# Altium footprint library electronic.PcbLib: 11 footprints
Each footprint in its own frame and in the unit in brackets; x right, y up, seen from the top. Pads: shape width x height; smd on the part's side, far side on the other; paste and mask are expansions set on the pad; w line width, h text height; cw(c..) or ccw(c..) is an arc to the next point about the centre after c.
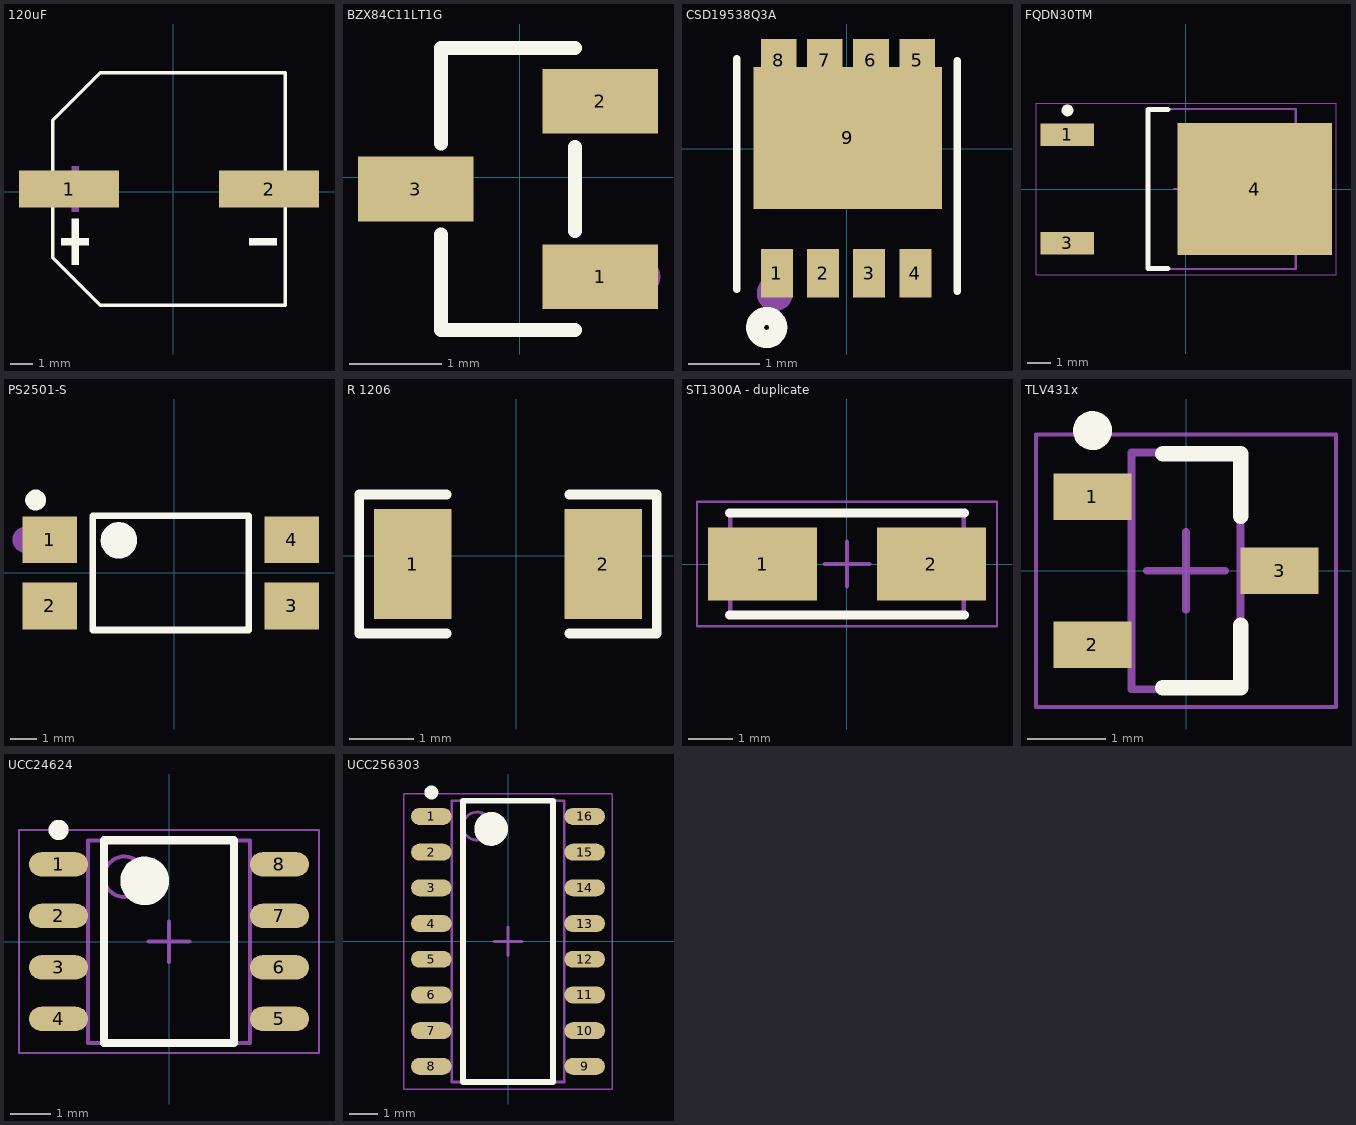
[diagram p0: the footprints below, top view; thin cyan lines are the x and y axes]

## 120uF [mm]
pads (2):
  rect 4.5x1.65 smd: 1(-4.682,0.127) 2(4.318,0.127)
Top Overlay:
  region: -4.56,-1.212 -4.56,-3.272 -4.25,-3.272 -4.25,-1.212
  region: -5.023,-2.087 -5.023,-2.396 -3.787,-2.396 -3.787,-2.087
  region: 4.659,-2.087 4.659,-2.396 3.423,-2.396 3.423,-2.087
  lines w0.152: -5.408,-0.725 -5.408,-2.963 -3.272,-5.099 5.044,-5.099 5.044,-0.725 ; -5.408,0.979 -5.408,3.217 -3.272,5.353 5.044,5.353 5.044,0.979
Mechanical 15:
  region: -4.56,1.157 -4.56,-0.903 -4.25,-0.903 -4.25,1.157
  region: -5.023,0.282 -5.023,-0.028 -3.787,-0.028 -3.787,0.282
  region: 4.659,0.282 4.659,-0.028 3.423,-0.028 3.423,0.282

## BZX84C11LT1G [mm]
pads (3):
  rect 1.25x0.7 smd: 1(0.873,-1.077) 2(0.873,0.823) 3(-1.127,-0.127)
Top Overlay:
  lines w0.152: -0.853,-0.622 -0.853,-1.653 0.599,-1.653 ; -0.853,0.368 -0.853,1.399 0.599,1.399 ; 0.599,-0.582 0.599,0.328
Mechanical 15:
  circle w0.2: c1.323,-1.077 r0.1

## CSD19538Q3A [mm]
pads (9):
  rect 0.45x0.68 smd: 1(-0.988,-1.752) 2(-0.337,-1.752) 3(0.313,-1.752) 4(0.963,-1.752)
  rect 0.5x0.6 smd: 5(0.988,1.245) 6(0.338,1.245) 7(-0.312,1.245) 8(-0.962,1.245)
  rect 2.65x2 smd: 9(0.013,0.153)
Top Overlay:
  circle w0.254: c-1.13,-2.514 r0.163
  lines w0.102: -1.55,-1.98 -1.55,1.27 ; 1.55,-2.006 1.55,1.244
Top Paste:
  region: 0.838,1.144 0.838,1.544 1.138,1.544 1.138,1.144
  region: 0.188,1.144 0.188,1.544 0.488,1.544 0.488,1.144
  region: -0.462,1.144 -0.462,1.544 -0.162,1.544 -0.162,1.144
  region: -1.112,1.144 -1.112,1.544 -0.812,1.544 -0.812,1.144
  region: -1.257,0.978 -1.257,-0.673 1.283,-0.673 1.283,0.978
  region: 1.112,-1.503 1.112,-1.903 0.812,-1.903 0.812,-1.503
  region: 0.463,-1.503 0.463,-1.903 0.163,-1.903 0.163,-1.503
  region: -0.188,-1.503 -0.188,-1.903 -0.488,-1.903 -0.488,-1.503
  region: -0.838,-1.503 -0.838,-1.903 -1.138,-1.903 -1.138,-1.503
Mechanical 15:
  circle w0.254: c-1.016,-2.032 r0.127

## FQDN30TM [mm] "D-PAK, 3-Pads, Body 6.21x6.73mm (max), IPC Medium Density"
height 2.39
pads (3):
  rect 2.25x0.95 smd: 1(-5,2.29) 3(-5,-2.29)
  rect 6.5x5.55 smd: 4(2.9,0)
Top Overlay:
  circle w0.25: c-5,3.315 r0.125
  lines w0.2: -0.75,-3.35 -1.6,-3.35 -1.6,3.35 -0.75,3.35
Mechanical 13:
  lines w0.1: -1.6,-3.375 4.62,-3.375 4.62,3.375 -1.6,3.375 -1.6,-3.375
Mechanical 15:
  lines w0.05: -6.325,-3.625 6.325,-3.625 6.325,3.625 -6.325,3.625 -6.325,-3.625
  lines w0.1: -0.5,0 0.5,0 ; 0,-0.5 0,0.5
3D body: height 2.39, standoff 0.13, extent -1.6,-3.375 4.62,3.375

## PS2501-S [mm]
pads (4):
  rect 2.1x1.8 smd: 1(-4.777,1.27) 2(-4.777,-1.27) 3(4.523,-1.27) 4(4.523,1.27)
Top Overlay:
  lines w0.254: -3.127,-2.2 -3.127,2.2 2.873,2.2 2.873,-2.2 -3.127,-2.2
  lines w0.4: -5.326,3 ccw(c-5.325,2.8) -5.324,3
  lines w0.7: -2.126,1.6 ccw(c-2.123,1.25) -2.121,1.6
Mechanical 15:
  circle w0.5: c-5.715,1.27 r0.25

## R 1206 [mil]
pads (2):
  rect 47.54x66.97 smd: 1(-63.22,-5) 2(53.22,-5)
Top Overlay:
  lines w6: -42.45,-47.48 -95.99,-47.48 -95.99,37.48 -42.45,37.48 ; 32.45,-47.48 85.99,-47.48 85.99,37.48 32.45,37.48
Top Paste:
  region: -39.45,-34.55 -39.45,-20.32 -43.39,-16.39 -51.68,-16.39 -55.61,-12.45 -55.61,2.45 -51.68,6.38 -43.39,6.38 -39.45,10.32 -39.45,24.55 -43.39,28.48 -83.05,28.48 -86.99,24.55 -86.99,-34.55 -83.05,-38.48 -43.39,-38.48
  region: 29.45,-34.55 29.45,-20.32 33.39,-16.39 41.68,-16.39 45.61,-12.45 45.61,2.45 41.68,6.38 33.39,6.38 29.45,10.32 29.45,24.55 33.39,28.48 73.05,28.48 76.99,24.55 76.99,-34.55 73.05,-38.48 33.39,-38.48

## ST1300A [mm]

## ST1300A - duplicate [mm] "Molded Capacitor, 2-Leads, Body 5.00x2.15mm, IPC Medium Density"
height 2.3
pads (2):
  rect 2.45x1.65 smd: 1(-1.9,0) 2(1.9,0)
Top Overlay:
  lines w0.2: -2.65,-1.15 2.65,-1.15 ; -2.65,1.15 2.65,1.15
Mechanical 13:
  lines w0.1: -2.625,-1.15 2.625,-1.15 2.625,1.15 -2.625,1.15 -2.625,-1.15
Mechanical 15:
  lines w0.05: -3.375,-1.4 3.375,-1.4 3.375,1.4 -3.375,1.4 -3.375,-1.4
  lines w0.1: -0.5,0 0.5,0 ; 0,-0.5 0,0.5
3D body: height 2.3, standoff 0, extent -2.625,-1.15 2.625,1.15

## TLV431x [mm] "SOT23, 3-Leads, Body 2.92x2.37mm, Pitch 0.95mm, IPC Medium Density"
height 1.12
pads (3):
  rect 1x0.6 smd: 1(-1.2,0.95) 2(-1.2,-0.95) 3(1.2,0)
Top Overlay:
  circle w0.25: c-1.2,1.8 r0.125
  lines w0.2: -0.3,-1.5 0.7,-1.5 0.7,-0.7 ; -0.3,1.5 0.7,1.5 0.7,0.7
Mechanical 13:
  lines w0.1: -0.7,-1.52 0.7,-1.52 0.7,1.52 -0.7,1.52 -0.7,-1.52
Mechanical 15:
  lines w0.05: -1.925,-1.75 1.925,-1.75 1.925,1.75 -1.925,1.75 -1.925,-1.75
  lines w0.1: -0.5,0 0.5,0 ; 0,-0.5 0,0.5
3D body: height 1.12, standoff 0.1, extent -0.7,-1.52 0.7,1.52

## UCC24624 [mm] "SOIC, 8-Leads, Body 4.90x3.90mm, Pitch 1.27mm, IPC Medium Density"
height 1.75
pads (8):
  oval 1.45x0.6 smd: 1(-2.725,1.905) 2(-2.725,0.635) 3(-2.725,-0.635) 4(-2.725,-1.905) 5(2.725,-1.905) 6(2.725,-0.635) 7(2.725,0.635) 8(2.725,1.905)
Top Overlay:
  circle w0.25: c-2.725,2.755 r0.125
  circle w0.6: c-0.6,1.5 r0.3
  lines w0.2: -1.6,-2.5 -1.6,2.5 1.6,2.5 1.6,-2.5 -1.6,-2.5
Mechanical 13:
  circle w0.1: c-1.1,1.6 r0.5
  lines w0.1: -2,-2.5 -2,2.5 2,2.5 2,-2.5 -2,-2.5
Mechanical 15:
  lines w0.05: -3.7,-2.75 -3.7,2.75 3.7,2.75 3.7,-2.75 -3.7,-2.75
  lines w0.1: -0.5,0 0.5,0 ; 0,-0.5 0,0.5
3D body: height 1.75, standoff 0.1, extent -2,-2.5 2,2.5

## UCC256303 [mm] "SOIC, 16-Leads, Body 9.90x3.90mm, Pitch 1.27mm, IPC Medium Density"
height 1.75
pads (16):
  oval 1.45x0.6 smd: 1(-2.725,4.445) 2(-2.725,3.175) 3(-2.725,1.905) 4(-2.725,0.635) 5(-2.725,-0.635) 6(-2.725,-1.905) 7(-2.725,-3.175) 8(-2.725,-4.445) 9(2.725,-4.445) 10(2.725,-3.175) 11(2.725,-1.905) 12(2.725,-0.635) 13(2.725,0.635) 14(2.725,1.905) 15(2.725,3.175) 16(2.725,4.445)
Top Overlay:
  circle w0.6: c-0.6,4 r0.3
  circle w0.25: c-2.725,5.295 r0.125
  lines w0.2: -1.6,-5 1.6,-5 1.6,5 -1.6,5 -1.6,-5
Mechanical 13:
  circle w0.1: c-1.1,4.1 r0.5
  lines w0.1: -2,-5 2,-5 2,5 -2,5 -2,-5
Mechanical 15:
  lines w0.05: -3.7,-5.25 3.7,-5.25 3.7,5.25 -3.7,5.25 -3.7,-5.25
  lines w0.1: -0.5,0 0.5,0 ; 0,-0.5 0,0.5
3D body: height 1.75, standoff 0.1, extent -2,-5 2,5